# EAGLE library part NU32-DRV8835 (library Final_Project_lib)
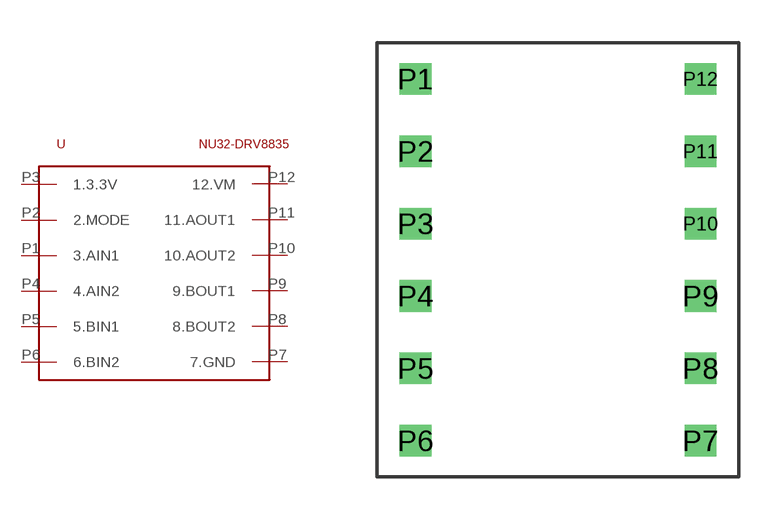
[diagram p8: symbol with the pads of NU32-DRV8835; footprint NU32-DRV8835]

Designator prefix -

## NU32-DRV8835  [NU32-DRV8835]
P1  3.AIN1
P2  2.MODE
P3  1.3.3V
P4  4.AIN2
P5  5.BIN1
P6  6.BIN2
P7  7.GND
P8  8.BOUT2
P9  9.BOUT1
P10  10.AOUT2
P11  11.AOUT1
P12  12.VM

## Footprint NU32-DRV8835 (pad centres in mm)
drill 0.6 square: P1 -5,6.35; P2 -5,3.81; P3 -5,1.27; P4 -5,-1.27; P5 -5,-3.81; P6 -5,-6.35; P7 5,-6.35; P8 5,-3.81; P9 5,-1.27; P10 5,1.27; P11 5,3.81; P12 5,6.35